# Altium footprint library M7.PcbLib: 3 footprints
Each footprint in its own frame and in the unit in brackets; x right, y up, seen from the top. Pads: shape width x height; smd on the part's side, far side on the other; paste and mask are expansions set on the pad; w line width, h text height; cw(c..) or ccw(c..) is an arc to the next point about the centre after c.
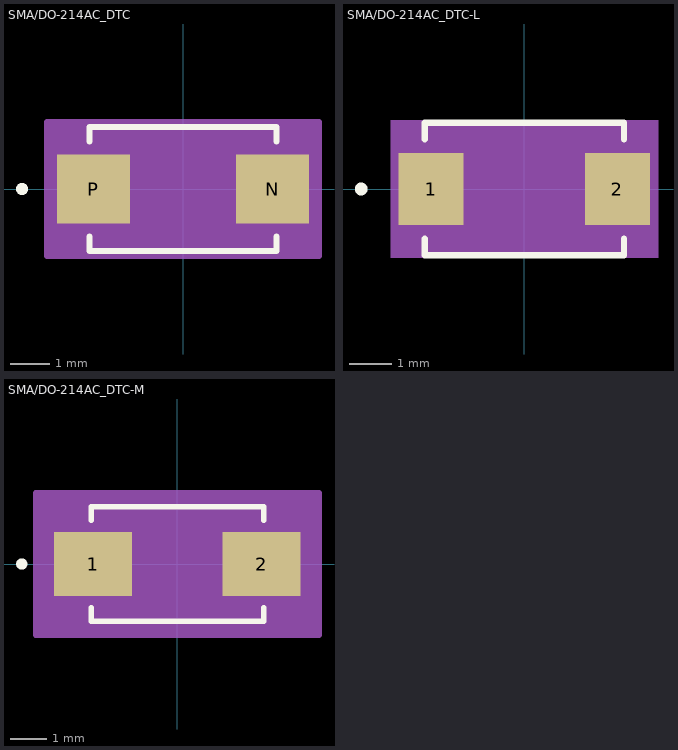
[diagram p0: the footprints below, top view; thin cyan lines are the x and y axes]

## SMA/DO-214AC_DTC [mm]
pads (2):
  rect 1.849x1.752 smd paste+0 mask+0: N(2.27,0) P(-2.27,0)
Top Overlay:
  circle w0.152: c-4.084,0 r0.076
  lines w0.152: -2.375,-1.209 -2.375,-1.575 2.375,-1.575 2.375,-1.209 ; -2.375,1.209 -2.375,1.575 2.375,1.575 2.375,1.209
Mechanical 5:
  region: 3.385,-1.638 -3.385,-1.638 -3.385,1.638 3.385,1.638
Mechanical 13:
  circle w0: c-2.271,0 r0.076
  lines w0.025: -2.248,-0.724 -1.524,-1.448 ; -2.248,0.724 -1.524,1.448 ; -2.845,-0.851 -2.845,0.851 -2.248,0.851 -2.248,-0.851 -2.845,-0.851 ; -2.248,-1.448 2.248,-1.448 2.248,1.448 -2.248,1.448 -2.248,-1.448 ; 2.248,-0.851 2.248,0.851 2.845,0.851 2.845,-0.851 2.248,-0.851
Mechanical 15:
  region: 3.449,-1.702 -3.449,-1.702 -3.449,1.702 3.449,1.702
  lines w0.152: -3.449,-1.702 -3.449,1.702 3.449,1.702 3.449,-1.702 -3.449,-1.702
3D body "M7_DO-214AC.step": height 2.34, standoff 0, extent -2.642,-1.397 2.642,1.397
3D body: height 0.25, standoff 0, extent 0,0 0.254,0.254
3D body "M7_DO-214AC.step": height 2.34, standoff 0, extent -2.642,-1.397 2.642,1.397

## SMA/DO-214AC_DTC-L [mm]
pads (2):
  rect 1.549x1.712 smd paste+0 mask+0: 1(-2.22,0) 2(2.22,0)
Top Overlay:
  circle w0.152: c-3.884,0 r0.076
  lines w0.152: -2.375,-1.189 -2.375,-1.575 2.375,-1.575 2.375,-1.189 ; -2.375,1.189 -2.375,1.575 2.375,1.575 2.375,1.189
Mechanical 5:
  region: 3.185,-1.638 -3.185,-1.638 -3.185,1.638 3.185,1.638
Mechanical 13:
  circle w0: c-2.22,0 r0.076
  lines w0.025: -2.248,-0.724 -1.524,-1.448 ; -2.248,0.724 -1.524,1.448 ; -2.845,-0.851 -2.845,0.851 -2.248,0.851 -2.248,-0.851 -2.845,-0.851 ; -2.248,-1.448 2.248,-1.448 2.248,1.448 -2.248,1.448 -2.248,-1.448 ; 2.248,-0.851 2.248,0.851 2.845,0.851 2.845,-0.851 2.248,-0.851
Mechanical 15:
  region: 3.096,-1.549 -3.096,-1.549 -3.096,1.549 3.096,1.549
  lines w0.152: -3.096,-1.549 -3.096,1.549 3.096,1.549 3.096,-1.549 -3.096,-1.549
3D body: height 0.25, standoff 0, extent 0,0 0.254,0.254

## SMA/DO-214AC_DTC-M [mm]
pads (2):
  rect 2.149x1.752 smd paste+0 mask+0: 1(-2.321,0) 2(2.321,0)
Top Overlay:
  circle w0.152: c-4.284,0 r0.076
  lines w0.152: -2.375,-1.209 -2.375,-1.575 2.375,-1.575 2.375,-1.209 ; -2.375,1.209 -2.375,1.575 2.375,1.575 2.375,1.209
Mechanical 5:
  region: 3.585,-1.638 -3.585,-1.638 -3.585,1.638 3.585,1.638
Mechanical 13:
  circle w0: c-2.321,0 r0.076
  lines w0.025: -2.248,-0.724 -1.524,-1.448 ; -2.248,0.724 -1.524,1.448 ; -2.845,-0.851 -2.248,-0.851 -2.248,0.851 -2.845,0.851 -2.845,-0.851 ; -2.248,-1.448 -2.248,1.448 2.248,1.448 2.248,-1.448 -2.248,-1.448 ; 2.248,-0.851 2.845,-0.851 2.845,0.851 2.248,0.851 2.248,-0.851
Mechanical 15:
  region: 3.903,-1.956 -3.903,-1.956 -3.903,1.956 3.903,1.956
  lines w0.152: -3.903,-1.956 3.903,-1.956 3.903,1.956 -3.903,1.956 -3.903,-1.956
3D body: height 0.25, standoff 0, extent 0,0 0.254,0.254